# EAGLE library part ESP32-C3-WROOM-02 (library chips)
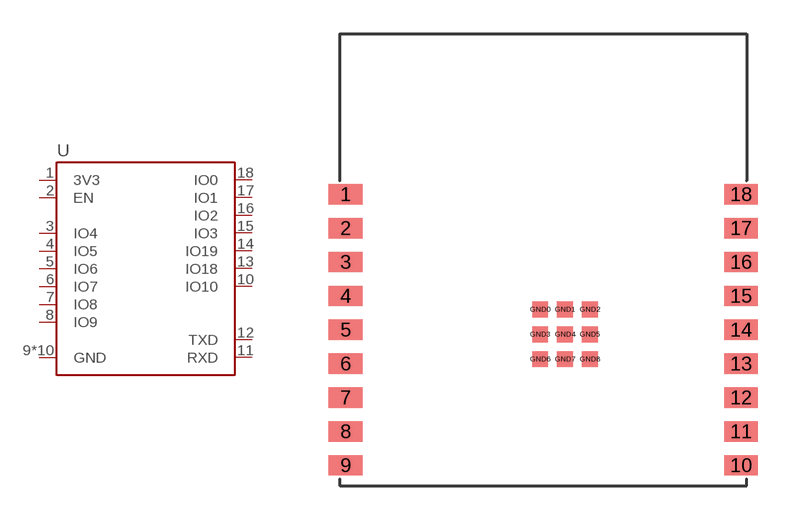
[diagram p115: symbol with the pads of ESP32-C3-WROOM-02; footprint ESP32-C3-WROOM-02]

Designator prefix U

## ESP32-C3-WROOM-02 (MOUSER: 356-ESP32C3WROOM02N4; MPN: ESP32-C3-WROOM-02)  [ESP32-C3-WROOM-02]
1  3V3
2  EN
3  IO4
4  IO5
5  IO6
6  IO7
7  IO8
8  IO9
9  GND
10  IO10
11  RXD
12  TXD
13  IO18
14  IO19
15  IO3
16  IO2
17  IO1
18  IO0
GND0  GND
GND1  GND
GND2  GND
GND3  GND
GND4  GND
GND5  GND
GND6  GND
GND7  GND
GND8  GND

## Footprint ESP32-C3-WROOM-02 (pad centres in mm)
smd 1.5 x 0.9: 1 0.25,12.9; 2 0.25,11.4; 3 0.25,9.9; 4 0.25,8.4; 5 0.25,6.9; 6 0.25,5.4; 7 0.25,3.9; 8 0.25,2.4; 9 0.25,0.9; 10 17.75,0.9; 11 17.75,2.4; 12 17.75,3.9; 13 17.75,5.4; 14 17.75,6.9; 15 17.75,8.4; 16 17.75,9.9; 17 17.75,11.4; 18 17.75,12.9
smd 0.7 x 0.7: GND0 8.86,7.8; GND1 9.96,7.8; GND2 11.06,7.8; GND3 8.86,6.7; GND4 9.96,6.7; GND5 11.06,6.7; GND6 8.86,5.6; GND7 9.96,5.6; GND8 11.06,5.6